# Altium schematic symbol library Switches.SchLib: 8 symbols
Pins are listed as number, name and electrical type; pins without a type are passive.

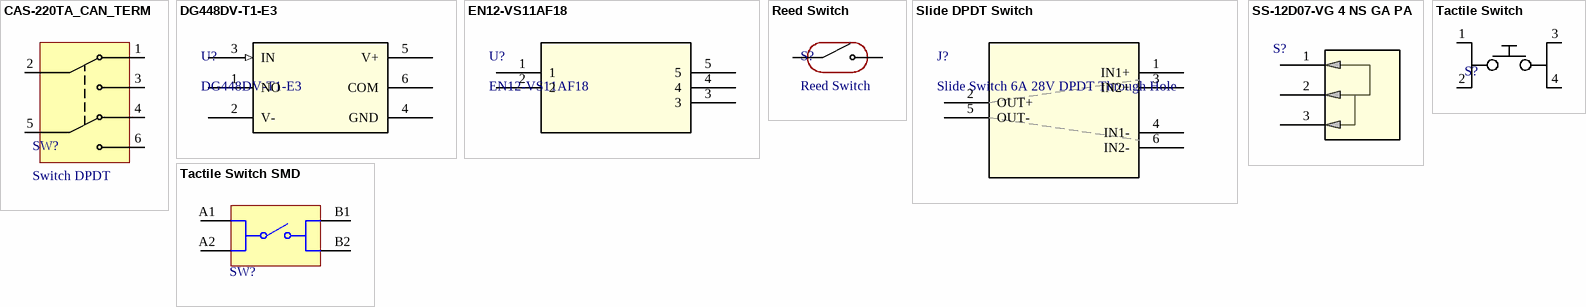
[diagram p0: symbols CAS-220TA_CAN_TERM to Tactile Switch SMD]

## CAS-220TA_CAN_TERM
designator SW?, comment Switch DPDT
GOLD SWITCH FLUSH SLIDE DPDT 100MA 6V; Made By: Robert Pafford; Voltage Rating: 6VDC; Current Rating: 100 mA; Switch Function: DPDT; Contact Finish: Gold; Supplier 1: Digi-Key; Supplier Part Number 1: CAS220JCT-ND
footprint CAS-220TA (SWITCH SLIDE DPDT 100MA 6V)
pins: 1, 2, 3, 4, 5, 6

## DG448DV-T1-E3
designator U?
No Description Available; Mfr_Name: Vishay; Copyright: Copyright (C) 2024 Ultra Librarian. All rights reserved.; Manufacturer_Part_Number: DG448DV-T1-E3; RefDes: RefDes; Type: DEV; Supplier 1: Mouser; Supplier Part Number 1: 781-DG448DV-E3
footprint TSOP6_DG_VIS-M
pins: 1 NO, 2 V- (power), 3 IN (in), 4 GND (power), 5 V+ (power), 6 COM

## EN12-VS11AF18
designator U?
Encoders 12mm Rotary Incremental Encoder; Mfr_Name: TT Electronics; Copyright: Copyright (C) 2023 Ultra Librarian. All rights reserved.; Manufacturer_Part_Number: EN12-VS11AF18; RefDes: RefDes; Type: DEV; Supplier 1: Mouser; Supplier Part Number 1: 858-EN12-VS11AF18
footprint EN12-VS_TTE
pins: 1, 2, 3, 4, 5

## Reed Switch
designator S?
Glass Body Reed Switch SPST-NO 10 ~ 20AT Operate Range 10W 350mA (AC), 500mA (DC) 140 V Through Hole; Made By: Robert Pafford; Switching Voltage (DC): 200V; Supplier 1: Digi-Key; Supplier Part Number 1: HE500-ND; Max Power: 10W; Max Current (DC): 500 mA
footprint MDSR-7 (Littelfuse MDSR-7 12.7mm Sub-miniature Reed Switch)
pins: 1, 2

## Slide DPDT Switch
designator J?, comment Slide Switch 6A 28V DPDT Through Hole
SWITCH SLIDE DPDT 6A 28V Through Hole; Mfr_Name: C&K; Manufacturer_Part_Number: 1201M2S3CQE2; Copyright: Copyright (C) 2022 Ultra Librarian. All rights reserved.; RefDes: RefDes; Type: DEV; Supplier 1: Newark; Supplier Part Number 1: 36AH1005
footprint CONN_S3CQE2
pins: 1 IN1+, 2 OUT+, 3 IN2+, 4 IN1-, 5 OUT-, 6 IN2-

## SS-12D07-VG 4 NS GA PA
designator S?  (value not drawn)
SWITCH SLIDE SPDT 300MA 30V; Supplier 1: Digikey; Supplier Part Number 1: CKN10397-ND
footprint SS-12D07-VG 4 NS GA PA
pins: 1, 2, 3

## Tactile Switch
designator S?, comment SPST Tactile Switch  (value not drawn)
SWITCH TACTILE SPST-NO 0.05A 12V; Made By: Robert Pafford; Supplier 1: Digi-Key; Supplier Part Number 1: EG2494-ND
footprint TactileSwitch
pins: 1, 2, 3, 4

## Tactile Switch SMD
designator SW?, comment 434123025826  (value not drawn)
WS-TASV J-Bend SMT Tact Switch, SPST-NO, 16VDC, 50mA, 260g; Manufacturer: Wurth Elektronik; Washable: No; ComponentLink1Description: Website Link; ComponentLink1URL: https://www.we-online.com/redexpert/article/434123025826?ad; ComponentLink2Description: Datasheet Link; ComponentLink2URL: https://www.we-online.com/redexpert/spec/434123025826?ad; Manufacturer Part Number: 434123025826; Category: Tact Switches; Match Code: WS-TASV; Mount: Surface Mount; Operating Temperature Max: 85°C; Operating Temperature Min: -40°C; Packaging: Tape and Reel; Length: 4.2mm; Width: 3.2mm; Height: 2.5mm; Circuit: SPST-NO; Contact Material: Stainless Steel; Contact Plating: Silver; Operation Force: 260g; Rated Current: 50mA; Rated Voltage: 16VDC; Terminal Material: Copper Alloy; Terminal Plating: Silver; Supplier 1: Mouser; Supplier Part Number 1: 710-434123025826
footprint SMD_434123025826
pins: A1, A2, B1, B2